# EAGLE library part TPD12S016 (library pandaLight)
HDMI Companion Chip
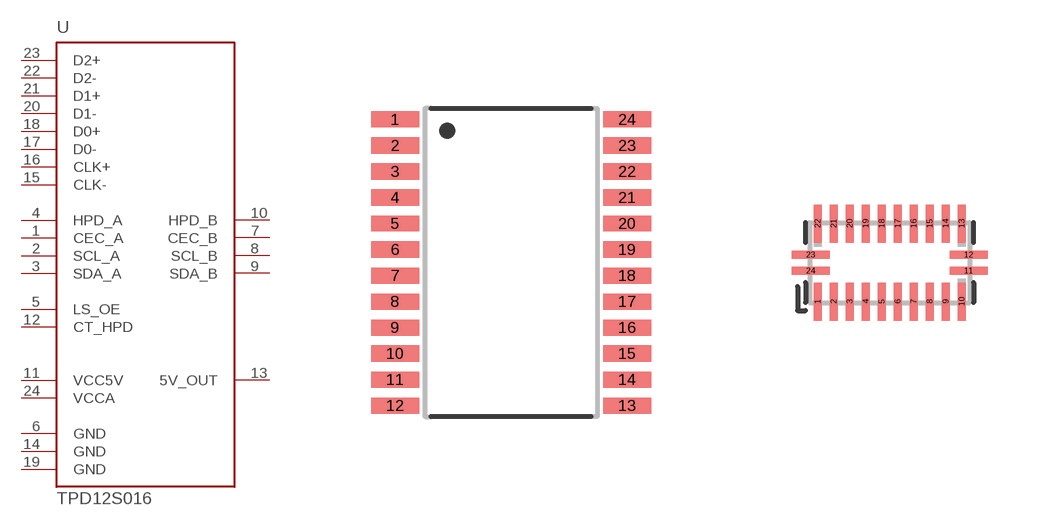
[diagram p12: symbol with the pads of PW_R-PDSO-G24; footprints PW_R-PDSO-G24, UQFN24]

Designator prefix U

## TPD12S016PWR  [PW_R-PDSO-G24]
1  CEC_A  out
2  SCL_A  out
3  SDA_A  out
4  HPD_A  out
5  LS_OE  in
6  GND  pwr
7  CEC_B  in
8  SCL_B  in
9  SDA_B  in
10  HPD_B  in
11  VCC5V  pwr
12  CT_HPD  in
13  5V_OUT  sup
14  GND  pwr
15  CLK-  in
16  CLK+  in
17  D0-  in
18  D0+  in
19  GND  pwr
20  D1-  in
21  D1+  in
22  D2-  in
23  D2+  in
24  VCCA  pwr

## TPD12S016RKTR  [UQFN24]
1  SCL_A  out
2  SDA_A  out
3  HPD_A  out
4  LS_OE  in
5  GND  pwr
6  CEC_B  in
7  SCL_B  in
8  SDA_B  in
9  HPD_B  in
10  VCC5V  pwr
11  CT_HPD  in
12  5V_OUT  sup
13  GND  pwr
14  CLK-  in
15  CLK+  in
16  D0-  in
17  D0+  in
18  GND  pwr
19  D1-  in
20  D1+  in
21  D2-  in
22  D2+  in
23  VCCA  pwr
24  CEC_A  out

## Footprint PW_R-PDSO-G24 (pad centres in mm)
smd 1.2 x 0.4: 1 -2.9,3.575; 2 -2.9,2.925; 3 -2.9,2.275; 4 -2.9,1.625; 5 -2.9,0.975; 6 -2.9,0.325; 7 -2.9,-0.325; 8 -2.9,-0.975; 9 -2.9,-1.625; 10 -2.9,-2.275; 11 -2.9,-2.925; 12 -2.9,-3.575; 13 2.9,-3.575; 14 2.9,-2.925; 15 2.9,-2.275; 16 2.9,-1.625; 17 2.9,-0.975; 18 2.9,-0.325; 19 2.9,0.325; 20 2.9,0.975; 21 2.9,1.625; 22 2.9,2.275; 23 2.9,2.925; 24 2.9,3.575

## Footprint UQFN24 (pad centres in mm)
smd 0.2 x 0.95: 1 -1.8,-0.975; 2 -1.4,-0.975; 3 -1,-0.975; 4 -0.6,-0.975; 5 -0.2,-0.975; 6 0.2,-0.975; 7 0.6,-0.975; 8 1,-0.975; 9 1.4,-0.975; 10 1.8,-0.975; 13 1.8,0.975; 14 1.4,0.975; 15 1,0.975; 16 0.6,0.975; 17 0.2,0.975; 18 -0.2,0.975; 19 -0.6,0.975; 20 -1,0.975; 21 -1.4,0.975; 22 -1.8,0.975
smd 0.95 x 0.2: 11 1.975,-0.2; 12 1.975,0.2; 23 -1.975,0.2; 24 -1.975,-0.2